# Altium schematic symbol library Transistors.SchLib: 2 symbols
Pins are listed as number, name and electrical type; pins without a type are passive.

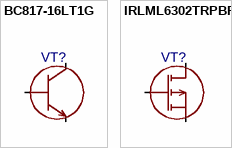
[diagram p0: symbols BC817-16LT1G to IRLML6302TRPBF]

## BC817-16LT1G
designator VT?, comment BC817  (value not drawn)
Транзистор NPN 45В 0.5А 0.31Вт
footprint SOT23127P600-8N
pins: B, C, E

## IRLML6302TRPBF
designator VT?, comment IRLML6302  (value not drawn)
Транзистор, P-канал 20В 0.78А logic
footprint SOT-23 Infenion(Micro3) (SOT23, 3-Leads, Body 2,86x2,30mm, Pitch 0,95mm, IPC Medium Density)
pins: D, G, S